# EAGLE library part JOYSTICK (library joystick)
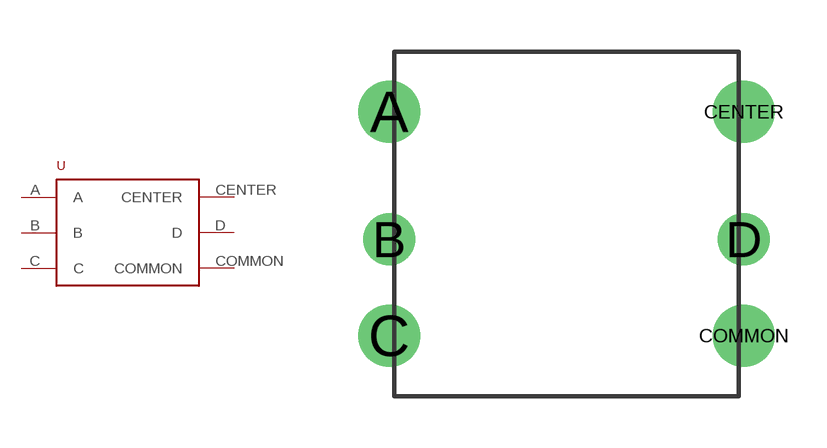
[diagram p0: symbol with the pads of JOYSTICK_516_316; footprint JOYSTICK_516_316]

Designator prefix -

## JOYSTICK  [JOYSTICK_516_316]
A  A
B  B
C  C
CENTER  CENTER
COMMON  COMMON
D  D

## Footprint JOYSTICK_516_316 (pad centres in mm)
drill 1.2: A -5.15,3.25; C -5.15,-3.25; CENTER 5.15,3.25; COMMON 5.15,-3.25
drill 1: B -5.15,-0.45; D 5.15,-0.45